# EAGLE library part TLV2333 (library DC_LOAD_AU)
TLV2333 350 kHz, Low-Noise, RRIO, CMOS Operational Amplifier for Cost-Sensitive Systems
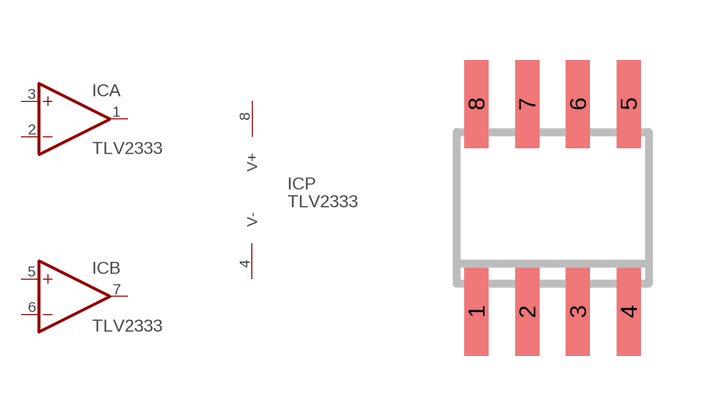
[diagram p1: symbol with the pads of SO8; footprint SO8]

Designator prefix IC; gates A=OPAMP B=OPAMP P=PPINS

## TLV2333  [SO8]
1  A:OUT  out
2  A:-IN  in
3  A:+IN  in
4  P:V-  pwr
5  B:+IN  in
6  B:-IN  in
7  B:OUT  out
8  P:V+  pwr

## Footprint SO8 (pad centres in mm)
SMALL OUTLINE INTEGRATED CIRCUIT
smd 0.6 x 2.2: 1 -1.905,-2.6; 2 -0.635,-2.6; 3 0.635,-2.6; 4 1.905,-2.6; 5 1.905,2.6; 6 0.635,2.6; 7 -0.635,2.6; 8 -1.905,2.6